# EAGLE library part MPR121 (library FlashPCB_Sensors)
MPR121 - IC CTLR TOUCH SENSOR 20-QFN Technical Specifications: Voltage Supply: 2v - 3.6v Inputs: up to 12 Component Search: [DATA SHEET NAME] <[FLASHPCB URL]> Datasheet: MPR121 <https://www.nxp.com/docs/en/data-sheet/MPR121.pdf>
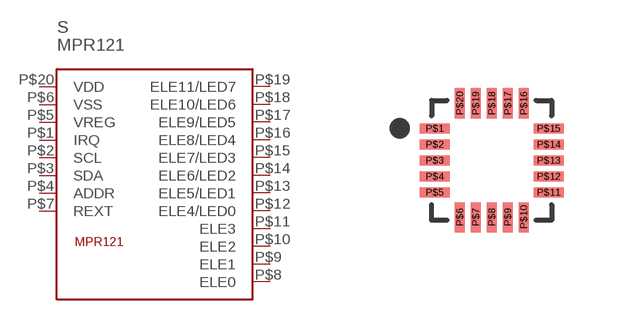
[diagram p17: symbol with the pads of 20-QFN(3X3); footprint 20-QFN(3X3)]

Designator prefix S

## MPR121  [20-QFN(3X3)]
P$1  IRQ
P$2  SCL
P$3  SDA
P$4  ADDR  pwr
P$5  VREG  pwr
P$6  VSS  pwr
P$7  REXT  pwr
P$8  ELE0
P$9  ELE1
P$10  ELE2
P$11  ELE3
P$12  ELE4/LED0
P$13  ELE5/LED1
P$14  ELE6/LED2
P$15  ELE7/LED3
P$16  ELE8/LED4
P$17  ELE9/LED5
P$18  ELE10/LED6
P$19  ELE11/LED7
P$20  VDD  pwr

## Footprint 20-QFN(3X3) (pad centres in mm)
smd 0.75 x 0.25: P$1 -1.425,0.8; P$2 -1.425,0.4; P$3 -1.425,0; P$4 -1.425,-0.4; P$5 -1.425,-0.8; P$11 1.425,-0.8; P$12 1.425,-0.4; P$13 1.425,0; P$14 1.425,0.4; P$15 1.425,0.8
smd 0.25 x 0.75: P$6 -0.8,-1.425; P$7 -0.4,-1.425; P$8 0,-1.425; P$9 0.4,-1.425; P$10 0.8,-1.425; P$16 0.8,1.425; P$17 0.4,1.425; P$18 0,1.425; P$19 -0.4,1.425; P$20 -0.8,1.425